# EAGLE library part TPS61032RSAR (library kitt.ic)
SYNCHRONOUS BOOST CONVERTER
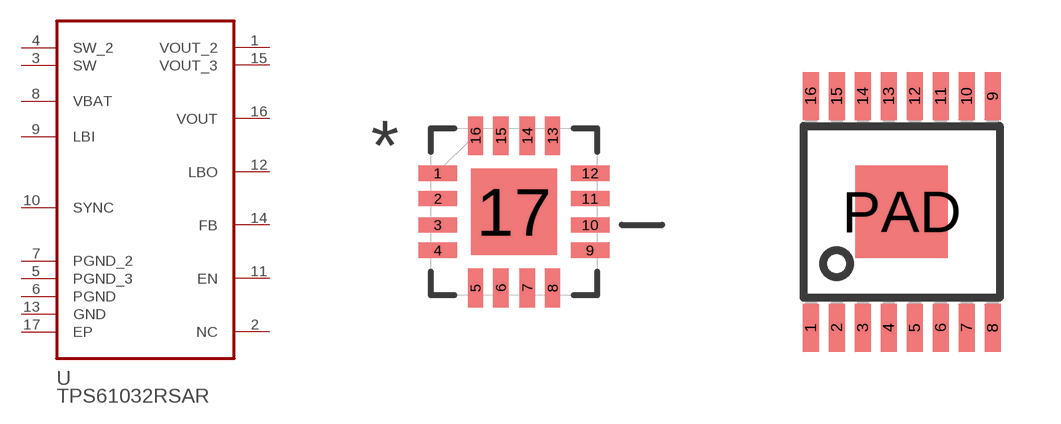
[diagram p4: symbol with the pads of QFN65P400X400X100-17N; footprints QFN65P400X400X100-17N, R-PDSO-G16]

Designator prefix U

## TPS61032RSAR (AVAILABILITY: Good; DESCRIPTION: 5-V Output, 1-A, 96% Efficient Boost Converter w/20uA Iq in TSSOP-16 16-QFN -40 to 85; MF: Texas Instruments; MP: TPS61032RSAR; PACKAGE: None; PRICE: 1.91 USD)  [QFN65P400X400X100-17N]
1  VOUT_2  out
2  NC  nc
3  SW  in
4  SW_2  in
5  PGND_3  pas
6  PGND  pas
7  PGND_2  pas
8  VBAT  in
9  LBI  in
10  SYNC  in
11  EN  in
12  LBO  out
13  GND  pas
14  FB  in
15  VOUT_3  out
16  VOUT  out
17  EP  pas

## TPS61032RSARPSDO-G16  [R-PDSO-G16]
1  SW  in
2  SW_2  in
3  PGND  pas
4  PGND_2  pas
5  PGND_3  pas
6  VBAT  in
7  LBI  in
8  SYNC  in
9  EN  in
10  LBO  out
11  GND  pas
12  FB  in
13  VOUT  out
14  VOUT_2  out
15  VOUT_3  out
16  NC  nc
PAD  EP  pas

## Footprint QFN65P400X400X100-17N (pad centres in mm)
smd 0.965 x 0.381: 1 -1.905,0.965; 2 -1.905,0.33; 3 -1.905,-0.33; 4 -1.905,-0.965; 9 1.905,-0.965; 10 1.905,-0.33; 11 1.905,0.33; 12 1.905,0.965
smd 0.381 x 0.965: 5 -0.965,-1.905; 6 -0.33,-1.905; 7 0.33,-1.905; 8 0.965,-1.905; 13 0.965,1.905; 14 0.33,1.905; 15 -0.33,1.905; 16 -0.965,1.905
smd 2.159 x 2.159: 17 0,0

## Footprint R-PDSO-G16 (pad centres in mm)
PLASTIC SMALL-OUTLINE PACKAGE SO 16 JEDEC MO-153 Source: www.ti.com/.. slvs087l.pdf
smd 0.4 x 1.2: 1 -2.275,-2.9; 2 -1.625,-2.9; 3 -0.975,-2.9; 4 -0.325,-2.9; 5 0.325,-2.9; 6 0.975,-2.9; 7 1.625,-2.9; 8 2.275,-2.9; 9 2.275,2.9; 10 1.625,2.9; 11 0.975,2.9; 12 0.325,2.9; 13 -0.325,2.9; 14 -0.975,2.9; 15 -1.625,2.9; 16 -2.275,2.9
smd 2.31 x 2.31: PAD 0,0